# Altium footprint library SignalCommunications.PCBLIB: 466 footprints (part 8 of 30)
Each footprint in its own frame and in the unit in brackets; x right, y up, seen from the top. Pads: shape width x height; smd on the part's side, far side on the other; paste and mask are expansions set on the pad; w line width, h text height; cw(c..) or ccw(c..) is an arc to the next point about the centre after c.
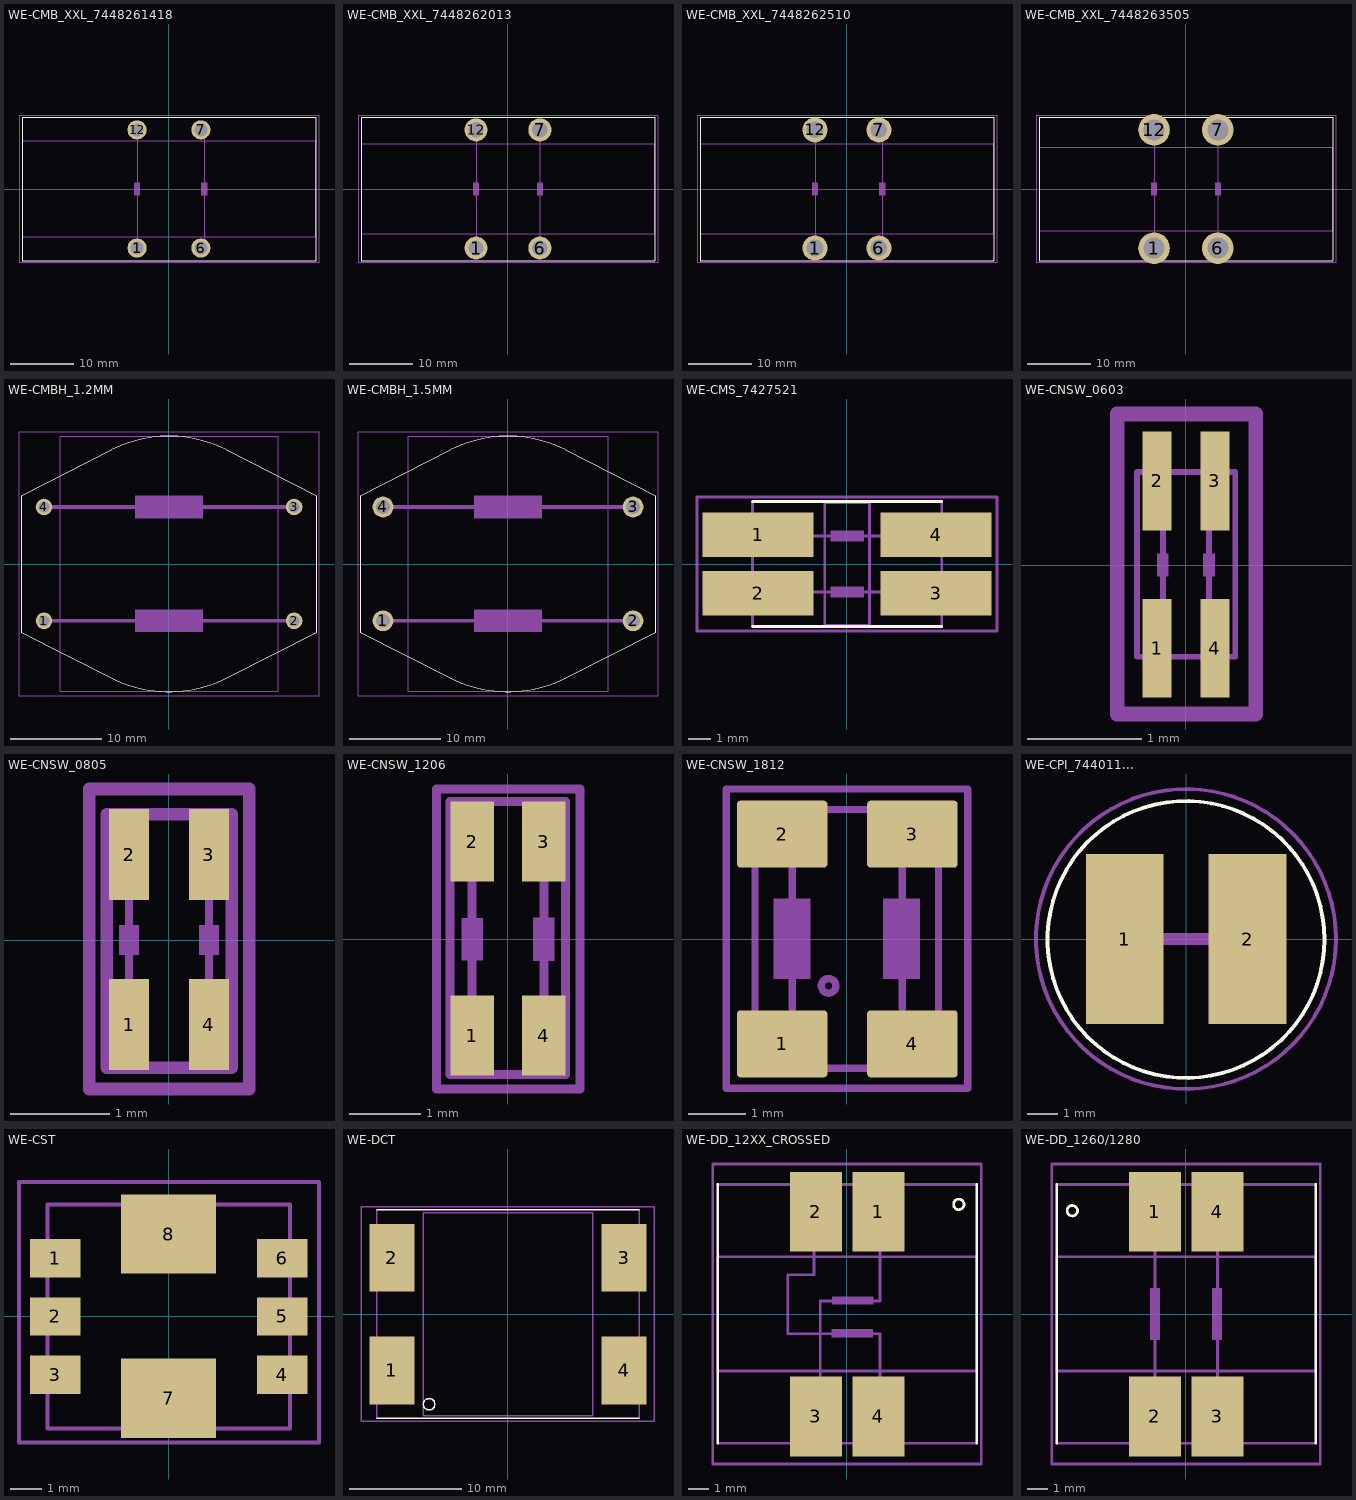
[diagram p7: the footprints below, top view; thin cyan lines are the x and y axes]

## WE-CMB_XXL_7448261418 [mil]
pads (4):
  round 118.5 hole 79: 1(-196.85,-364.17) 6(197,-364.17) 7(197,365) 12(-196.85,365)
Top Overlay:
  lines w5: -905.51,-442.91 906,-442.91 906,443 -905.51,443 -905.51,-442.91
Mechanical 10:
  lines w5: -905.51,-295.28 -905.51,296 906,296 906,-295.28 -905.51,-295.28
Mechanical 16:
  rectangle: -216.54,-39.37 -177.17,40
  rectangle: 197,-39.37 237,40
  lines w5: -196.85,-354.33 -196.85,355 ; 217,-354.33 217,355
Mechanical 27:
  lines w5: -925.2,-452.76 -925.2,453 926,453 926,-452.76 -925.2,-452.76

## WE-CMB_XXL_7448262013 [mil]
pads (4):
  round 142.5 hole 95: 1(-196.85,-364.17) 6(197,-364.17) 7(197,365) 12(-196.85,365)
Top Overlay:
  lines w5: -905.51,-442.91 906,-442.91 906,443 -905.51,443 -905.51,-442.91
Mechanical 10:
  lines w5: -905.51,-275.59 -905.51,276 906,276 906,-275.59 -905.51,-275.59
Mechanical 16:
  rectangle: -216.54,-39.37 -177.17,40
  rectangle: 178,-39.37 217,40
  lines w5: -196.85,-354.33 -196.85,355 ; 197,-334.65 197,355
Mechanical 27:
  lines w5: -925.2,-452.76 -925.2,453 926,453 926,-452.76 -925.2,-452.76

## WE-CMB_XXL_7448262510 [mil]
pads (4):
  round 154.5 hole 103: 1(-196.85,-364.17) 6(197,-364.17) 7(197,365) 12(-196.85,365)
Top Overlay:
  lines w5: -905.51,-442.91 906,-442.91 906,443 -905.51,443 -905.51,-442.91
Mechanical 10:
  lines w5: -905.51,-275.59 -905.51,276 906,276 906,-275.59 -905.51,-275.59
Mechanical 16:
  rectangle: -216.54,-39.37 -177.17,40
  rectangle: 197,-39.37 237,40
  lines w5: -196.85,-354.33 -196.85,355 ; 217,-354.33 217,355
Mechanical 27:
  lines w5: -925.2,-452.76 -925.2,453 926,453 926,-452.76 -925.2,-452.76

## WE-CMB_XXL_7448263505 [mil]
pads (4):
  round 195 hole 130: 1(-196.85,-364.17) 6(197,-364.17) 7(197,365) 12(-196.85,365)
Top Overlay:
  lines w5: -905.51,-442.91 906,-442.91 906,443 -905.51,443 -905.51,-442.91
Mechanical 10:
  lines w5: -905.51,-255.91 -905.51,256 906,256 906,-255.91 -905.51,-255.91
Mechanical 16:
  rectangle: -216.54,-39.37 -177.17,40
  rectangle: 178,-39.37 217,40
  lines w5: -196.85,-354.33 -196.85,355 ; 197,-354.33 197,355
Mechanical 27:
  lines w5: -925.2,-452.76 -925.2,453 926,453 926,-452.76 -925.2,-452.76

## WE-CMBH_1.2MM [mil]
pads (4):
  round 72 hole 48: 1(-541.34,-246.06) 2(542,-246.06) 3(542,247) 4(-541.34,247)
Top Overlay:
  lines w5: -639.76,-295.28 -639.76,296 -249.52,494 cw(c0.24,2.05) 250,494 640,296 640,-295.28 250,-493.4 cw(c0.24,-1.46) -249.52,-493.4 -639.76,-295.28
Mechanical 10:
  lines w5: -472.44,-551.18 -472.44,552 473,552 473,-551.18 -472.44,-551.18
Mechanical 16:
  rectangle: -147.64,197 148,296
  rectangle: -147.64,-295.28 148,-196.85
  lines w16: -541.34,-246.06 542,-246.06 ; -541.34,247 542,247
Mechanical 27:
  lines w5: -649.61,-570.87 -649.61,571 650,571 650,-570.87 -649.61,-570.87

## WE-CMBH_1.5MM [mil]
pads (4):
  round 90 hole 60: 1(-541.34,-246.06) 2(542,-246.06) 3(542,247) 4(-541.34,247)
Top Overlay:
  lines w5: -639.76,-295.28 -639.76,296 -249.52,494 cw(c0.24,2.05) 250,494 640,296 640,-295.28 250,-493.4 cw(c0.24,-1.46) -249.52,-493.4 -639.76,-295.28
Mechanical 10:
  lines w5: -433.07,-551.18 -433.07,552 434,552 434,-551.18 -433.07,-551.18
Mechanical 16:
  rectangle: -147.64,197 148,296
  rectangle: -147.64,-295.28 148,-196.85
  lines w16: -541.34,-246.06 542,-246.06 ; -541.34,247 542,247
Mechanical 27:
  lines w5: -649.61,-570.87 -649.61,571 650,571 650,-570.87 -649.61,-570.87

## WE-CMS_7427521 [mil]
pads (4):
  rect 197x79 smd: 1(-157.48,52) 2(-157.48,-51.18) 3(158,-51.18) 4(158,52)
Top Overlay:
  lines w5: -167.32,-110.24 168,-110.24 ; -167.32,111 168,111
Mechanical 10:
  lines w5: -39.37,-108.27 -39.37,109 40,109 40,-108.27 -39.37,-108.27
Mechanical 16:
  rectangle: -29.53,40 30,60
  rectangle: -29.53,-59.06 30,-39.37
  lines w5: -167.32,-110.24 -167.32,111 ; -157.48,-49.21 158,-49.21 ; -157.48,50 158,50 ; 168,-110.24 168,111
Mechanical 27:
  lines w5: -265.75,-118.11 -265.75,119 266,119 266,-118.11 -265.75,-118.11

## WE-CNSW_0603 [mil]
pads (4):
  rect 10x34 smd: 1(-9.84,-28.54) 2(-9.84,29) 3(10,29) 4(10,-28.54)
Mechanical 16:
  rectangle: -9.84,-3.94 -5.91,4
  rectangle: 6,-3.94 10,4
  lines w2: -7.87,-17.72 -7.87,18 ; 8,-17.72 8,18 ; -16.73,-31.5 17,-31.5 17,32 -16.73,32 -16.73,-31.5
Mechanical 27:
  lines w5: -23.62,-51.18 -23.62,52 24,52 24,-51.18 -23.62,-51.18

## WE-CNSW_0805 [mil]
pads (4):
  rect 16x36 smd: 1(-15.75,-33.46) 2(-15.75,34) 3(16,34) 4(16,-33.46)
Mechanical 16:
  region: 12.03,6.03 12.03,-5.97 19.97,-5.97 19.97,6.03
  region: -19.71,5.94 -19.71,-5.88 -11.78,-5.88 -11.78,5.94
  lines w3: -15.75,-33.46 -15.75,34 ; 16,-33.46 16,34
  lines w5: 25,-50.69 -24.59,-50.69 -24.59,50 25,50 25,-50.5
Mechanical 27:
  lines w5: -31.5,-59.06 -31.5,60 32,60 32,-59.06 -31.5,-59.06

## WE-CNSW_1206 [mil]
pads (4):
  rect 24x44 smd: 1(-19.68,-53.15) 2(-19.68,54) 3(20,54) 4(20,-53.15)
Mechanical 16:
  region: 14.05,12.05 14.05,-11.95 25.95,-11.95 25.95,12.05
  region: -25.64,11.86 -25.64,-11.77 -13.73,-11.77 -13.73,11.86
  lines w5: -19.68,-53.15 -19.68,54 ; 20,-53.15 20,54 ; -31.93,-74.79 -31.93,76 32,76 32,-74.79 -31.93,-74.79
Mechanical 27:
  lines w5: -39.37,-82.68 -39.37,83 40,83 40,-82.68 -39.37,-82.68

## WE-CNSW_1812 [mil]
pads (4):
  rrect10% 62x46 smd: 1(-44.29,-71.85) 2(-44.29,72) 3(45,72) 4(45,-71.85)
Mechanical 16:
  circle w5: c-12.44,-32.07 r5
  region: -24.75,-27.25 -24.75,27.75 -50.25,27.75 -50.25,-27.25
  region: 50.25,-27.25 50.25,27.75 24.75,27.75 24.75,-27.25
  lines w5: -37.5,-47.5 -37.5,48 ; 38,-47.5 38,48 ; -62.99,-88.58 -62.99,89 63,89 63,-88.58 -62.99,-88.58
Mechanical 27:
  lines w5: -82.68,-102.36 83,-102.36 83,103 -82.68,103 -82.68,-102.36

## WE-CPI_744011... [mil]
pads (2):
  rect 101x221 smd: 1(-79.72,0) 2(80,0)
Top Overlay:
  circle w5: c0,-0.61 r180
Mechanical 16:
  lines w16: -79.72,0 80,0
Mechanical 27:
  circle w5: c0,0 r195

## WE-CST [mil]
pads (8):
  rect 63x48 smd: 1(-141.73,73) 2(-141.73,0) 3(-141.73,-72.83) 4(142,-72.83) 5(142,0) 6(142,73)
  rect 119x99 smd: 7(0,-102.36) 8(0,103)
Mechanical 16:
  lines w5: -151.57,-139.76 152,-139.76 ; -151.57,-137.8 -151.57,138 ; -151.57,140 152,140 ; 152,-137.8 152,138
Mechanical 27:
  lines w5: -187.01,-157.48 -187.01,168 188,168 188,-157.48 -187.01,-157.48

## WE-DCT [mil]
pads (4):
  rect 158x237 smd: 1(-405.51,-196.85) 2(-405.51,197) 3(406,197) 4(406,-196.85)
Top Overlay:
  circle w5: c-275.59,-314.96 r20
  lines w5: -458.66,-364.17 459,-364.17 ; -458.66,365 459,365
Mechanical 10:
  lines w5: -295.28,-354.33 -295.28,355 296,355 296,-354.33 -295.28,-354.33
Mechanical 16:
  lines w5: -458.66,-364.17 -458.66,365 ; 459,-364.17 459,365
  text "1" at -295.28,-196.85 h77.5
Mechanical 27:
  lines w5: -511.81,-374.02 -511.81,375 512,375 512,-374.02 -511.81,-374.02

## WE-DD_12XX_CROSSED [mil]
pads (4):
  rect 99x152 smd: 1(60,195) 2(-59.06,195) 3(-59.06,-194.88) 4(60,-194.88)
Top Overlay:
  circle w5: c213,209 r10
  lines w5: -246.06,-246.06 -246.06,247 ; 247,-246.06 247,247
Mechanical 10:
  lines w5: -246.06,-108.27 -246.06,109 247,109 247,-108.27 -246.06,-108.27
Mechanical 16:
  rectangle: -28.08,18 51,34
  rectangle: -29.7,-44.35 50,-28.6
  lines w5: -246.06,-246.06 247,-246.06 ; -246.06,247 247,247 ; -62.5,188 -62.91,75 -112.5,75 -112.5,-37.5 63,-37.5 63,-194.88 ; -50.8,-194.88 -50.8,25 63,25 63,190
Mechanical 27:
  lines w5: -255.91,-285.43 -255.91,286 256,286 256,-285.43 -255.91,-285.43

## WE-DD_1260/1280 [mil]
pads (4):
  rect 99x152 smd: 1(-59.06,195) 2(-59.06,-194.88) 3(60,-194.88) 4(60,195)
Top Overlay:
  circle w5: c-216.54,197 r10
  lines w5: -246.06,-246.06 -246.06,247 ; 247,-246.06 247,247
Mechanical 10:
  lines w5: -246.06,-108.27 -246.06,109 247,109 247,-108.27 -246.06,-108.27
Mechanical 16:
  rectangle: -68.9,-49.21 -49.21,50
  rectangle: 50,-49.21 69,50
  lines w5: -246.06,-246.06 247,-246.06 ; -246.06,247 247,247 ; -59.06,-137.8 -59.06,138 ; 60,-137.8 60,138
Mechanical 27:
  lines w5: -255.91,-285.43 -255.91,286 256,286 256,-285.43 -255.91,-285.43